# EAGLE library part HRS_DM1A (library HRS_SD_SLOT)
HRS DM1A
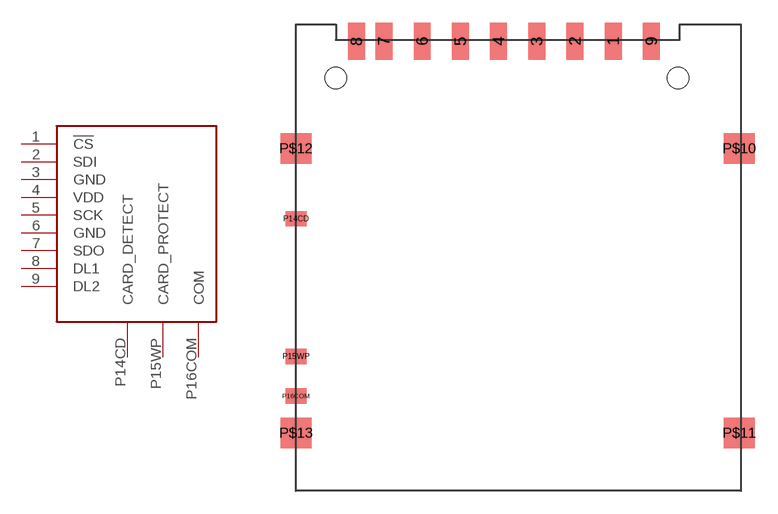
[diagram p0: symbol with the pads of DM1A; footprint DM1A]

Designator prefix -

## HRS_DM1A  [DM1A]
1  !CS
2  SDI
3  GND
4  VDD
5  SCK
6  GND
7  SDO
8  DL1
9  DL2
P14CD  CARD_DETECT
P15WP  CARD_PROTECT
P16COM  COM

## Footprint DM1A (pad centres in mm)
HRS DM1A
smd 1.1 x 2.4: 1 18.15,2.4; 2 15.65,2.4; 3 13.15,2.4; 4 10.65,2.4; 5 8.15,2.4; 6 5.65,2.4; 7 3.15,2.4; 8 1.35,2.4; 9 20.65,2.4
smd 1.4 x 1: P14CD -2.6,-9.2; P15WP -2.6,-18.2; P16COM -2.6,-20.8
smd 2 x 2: P$10 26.4,-4.6; P$11 26.4,-23.2; P$12 -2.6,-4.6; P$13 -2.6,-23.2
hole 1.4 at 0,0
hole 1.4 at 22.4,0